# Altium integrated library Altera MAX 7000AE.IntLib: 310 symbols (part 22 of 22)
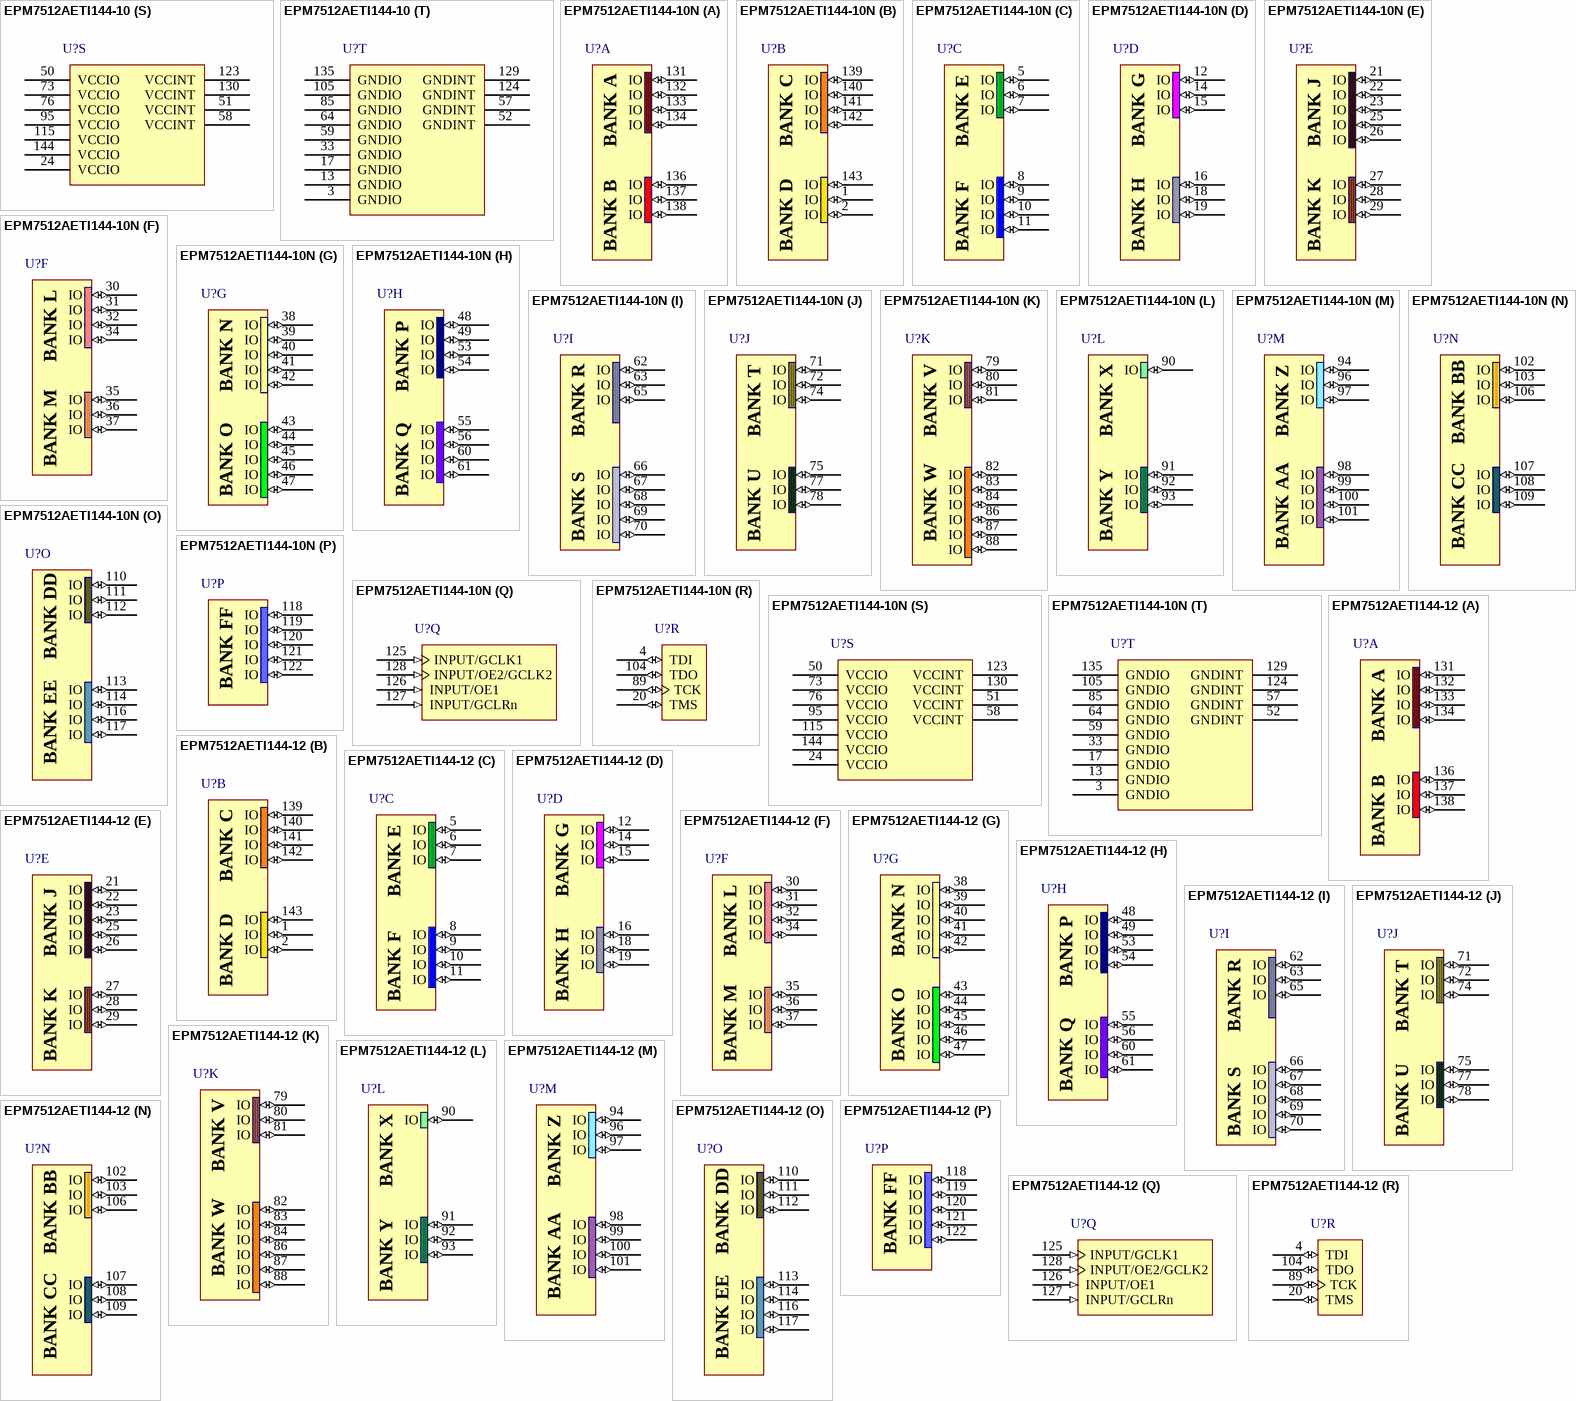
[diagram p141: symbols EPM7512AETI144-10 to EPM7512AETI144-12]

## EPM7512AETI144-10
designator U?
MAX 7000AE 3.3V CPLD, 512 Macrocells, 144-Pin TQFP, Speed Grade 10, Industrial Grade; Published: 18-Aug-2005; LatestRevisionDate: 13-Apr-2006; LatestRevisionNote: IPC-7351 Footprint Added.; DatasheetVersion: ver4.5, Sep-2003; PackageVersion: ver14.3, Jul-2006; PackageReference: TQFP144; Publisher: Altium Limited; PackageDescription: 144-Pin Plastic Thin Quad Flat Pack (TQFP144); Code_JEDEC: MS-026-BFB; ComponentLink1Description: Manufacturer Link; ComponentLink1URL: http://www.altera.com/products/devices/max7k/m7k-index.html; ComponentLink2Description: Datasheet; ComponentLink2URL: http://www.altera.com/literature/ds/m7000a.pdf; ComponentLink3Description: Packaging Specification; ComponentLink3URL: http://www.altera.com/literature/ds/dspkg.pdf
footprint TQFP144_N (Thin QFP, 144-Leads, Body 20x20mm, Pitch 0.5mm, IPC Medium Density)
footprint TQFP144_L (Thin QFP, 144-Leads, Body 20x20mm, Pitch 0.5mm, IPC High Density)
footprint TQFP144_M (Thin QFP, 144-Leads, Body 20x20mm, Pitch 0.5mm, IPC Low Density)
3D model EPM7512AE-TQFP144 (144-Pin Plastic Thin Quad Flat Pack (TQFP144))
signal-integrity model max7kae (MAX 7000AE)
part A pins: 131 IO (io), 132 IO (io), 133 IO (io), 134 IO (io), 136 IO (io), 137 IO (io), 138 IO (io)
part B pins: 1 IO (io), 2 IO (io), 139 IO (io), 140 IO (io), 141 IO (io), 142 IO (io), 143 IO (io)
part C pins: 5 IO (io), 6 IO (io), 7 IO (io), 8 IO (io), 9 IO (io), 10 IO (io), 11 IO (io)
part D pins: 12 IO (io), 14 IO (io), 15 IO (io), 16 IO (io), 18 IO (io), 19 IO (io)
part E pins: 21 IO (io), 22 IO (io), 23 IO (io), 25 IO (io), 26 IO (io), 27 IO (io), 28 IO (io), 29 IO (io)
part F pins: 30 IO (io), 31 IO (io), 32 IO (io), 34 IO (io), 35 IO (io), 36 IO (io), 37 IO (io)
part G pins: 38 IO (io), 39 IO (io), 40 IO (io), 41 IO (io), 42 IO (io), 43 IO (io), 44 IO (io), 45 IO (io), 46 IO (io), 47 IO (io)
part H pins: 48 IO (io), 49 IO (io), 53 IO (io), 54 IO (io), 55 IO (io), 56 IO (io), 60 IO (io), 61 IO (io)
part I pins: 62 IO (io), 63 IO (io), 65 IO (io), 66 IO (io), 67 IO (io), 68 IO (io), 69 IO (io), 70 IO (io)
part J pins: 71 IO (io), 72 IO (io), 74 IO (io), 75 IO (io), 77 IO (io), 78 IO (io)
part K pins: 79 IO (io), 80 IO (io), 81 IO (io), 82 IO (io), 83 IO (io), 84 IO (io), 86 IO (io), 87 IO (io), 88 IO (io)
part L pins: 90 IO (io), 91 IO (io), 92 IO (io), 93 IO (io)
part M pins: 94 IO (io), 96 IO (io), 97 IO (io), 98 IO (io), 99 IO (io), 100 IO (io), 101 IO (io)
part N pins: 102 IO (io), 103 IO (io), 106 IO (io), 107 IO (io), 108 IO (io), 109 IO (io)
part O pins: 110 IO (io), 111 IO (io), 112 IO (io), 113 IO (io), 114 IO (io), 116 IO (io), 117 IO (io)
part P pins: 118 IO (io), 119 IO (io), 120 IO (io), 121 IO (io), 122 IO (io)
part Q pins: 125 INPUT/GCLK1 (in), 126 INPUT/OE1 (in), 127 INPUT/GCLRn (in), 128 INPUT/OE2/GCLK2 (in)
part R pins: 4 TDI (io), 20 TMS (io), 89 TCK (io), 104 TDO (io)
part S pins: 24 VCCIO (power), 50 VCCIO (power), 51 VCCINT (power), 58 VCCINT (power), 73 VCCIO (power), 76 VCCIO (power), 95 VCCIO (power), 115 VCCIO (power), 123 VCCINT (power), 130 VCCINT (power), 144 VCCIO (power)
part T pins: 3 GNDIO (power), 13 GNDIO (power), 17 GNDIO (power), 33 GNDIO (power), 52 GNDINT (power), 57 GNDINT (power), 59 GNDIO (power), 64 GNDIO (power), 85 GNDIO (power), 105 GNDIO (power), 124 GNDINT (power), 129 GNDINT (power), 135 GNDIO (power)
part A text: BANK A; BANK B
part B text: BANK C; BANK D
part C text: BANK E; BANK F
part D text: BANK G; BANK H
part E text: BANK J; BANK K
part F text: BANK L; BANK M
part G text: BANK N; BANK O
part H text: BANK P; BANK Q
part I text: BANK R; BANK S
part J text: BANK T; BANK U
part K text: BANK V; BANK W
part L text: BANK X; BANK Y
part M text: BANK Z; BANK AA
part N text: BANK BB; BANK CC
part O text: BANK DD; BANK EE
part P text: BANK FF

## EPM7512AETI144-10N
designator U?
MAX 7000AE 3.3V CPLD, 512 Macrocells, 144-Pin TQFP, Speed Grade 10, Industrial Grade, Pb-Free; Published: 18-Aug-2005; LatestRevisionDate: 13-Apr-2006; LatestRevisionNote: IPC-7351 Footprint Added.; DatasheetVersion: ver4.5, Sep-2003; PackageVersion: ver14.3, Jul-2006; PackageReference: TQFP144; Publisher: Altium Limited; PackageDescription: 144-Pin Plastic Thin Quad Flat Pack (TQFP144); Code_JEDEC: MS-026-BFB; ComponentLink1Description: Manufacturer Link; ComponentLink1URL: http://www.altera.com/products/devices/max7k/m7k-index.html; ComponentLink2Description: Datasheet; ComponentLink2URL: http://www.altera.com/literature/ds/m7000a.pdf; ComponentLink3Description: Packaging Specification; ComponentLink3URL: http://www.altera.com/literature/ds/dspkg.pdf
footprint TQFP144_N (Thin QFP, 144-Leads, Body 20x20mm, Pitch 0.5mm, IPC Medium Density)
footprint TQFP144_L (Thin QFP, 144-Leads, Body 20x20mm, Pitch 0.5mm, IPC High Density)
footprint TQFP144_M (Thin QFP, 144-Leads, Body 20x20mm, Pitch 0.5mm, IPC Low Density)
3D model EPM7512AE-TQFP144 (144-Pin Plastic Thin Quad Flat Pack (TQFP144))
signal-integrity model max7kae (MAX 7000AE)
part A pins: 131 IO (io), 132 IO (io), 133 IO (io), 134 IO (io), 136 IO (io), 137 IO (io), 138 IO (io)
part B pins: 1 IO (io), 2 IO (io), 139 IO (io), 140 IO (io), 141 IO (io), 142 IO (io), 143 IO (io)
part C pins: 5 IO (io), 6 IO (io), 7 IO (io), 8 IO (io), 9 IO (io), 10 IO (io), 11 IO (io)
part D pins: 12 IO (io), 14 IO (io), 15 IO (io), 16 IO (io), 18 IO (io), 19 IO (io)
part E pins: 21 IO (io), 22 IO (io), 23 IO (io), 25 IO (io), 26 IO (io), 27 IO (io), 28 IO (io), 29 IO (io)
part F pins: 30 IO (io), 31 IO (io), 32 IO (io), 34 IO (io), 35 IO (io), 36 IO (io), 37 IO (io)
part G pins: 38 IO (io), 39 IO (io), 40 IO (io), 41 IO (io), 42 IO (io), 43 IO (io), 44 IO (io), 45 IO (io), 46 IO (io), 47 IO (io)
part H pins: 48 IO (io), 49 IO (io), 53 IO (io), 54 IO (io), 55 IO (io), 56 IO (io), 60 IO (io), 61 IO (io)
part I pins: 62 IO (io), 63 IO (io), 65 IO (io), 66 IO (io), 67 IO (io), 68 IO (io), 69 IO (io), 70 IO (io)
part J pins: 71 IO (io), 72 IO (io), 74 IO (io), 75 IO (io), 77 IO (io), 78 IO (io)
part K pins: 79 IO (io), 80 IO (io), 81 IO (io), 82 IO (io), 83 IO (io), 84 IO (io), 86 IO (io), 87 IO (io), 88 IO (io)
part L pins: 90 IO (io), 91 IO (io), 92 IO (io), 93 IO (io)
part M pins: 94 IO (io), 96 IO (io), 97 IO (io), 98 IO (io), 99 IO (io), 100 IO (io), 101 IO (io)
part N pins: 102 IO (io), 103 IO (io), 106 IO (io), 107 IO (io), 108 IO (io), 109 IO (io)
part O pins: 110 IO (io), 111 IO (io), 112 IO (io), 113 IO (io), 114 IO (io), 116 IO (io), 117 IO (io)
part P pins: 118 IO (io), 119 IO (io), 120 IO (io), 121 IO (io), 122 IO (io)
part Q pins: 125 INPUT/GCLK1 (in), 126 INPUT/OE1 (in), 127 INPUT/GCLRn (in), 128 INPUT/OE2/GCLK2 (in)
part R pins: 4 TDI (io), 20 TMS (io), 89 TCK (io), 104 TDO (io)
part S pins: 24 VCCIO (power), 50 VCCIO (power), 51 VCCINT (power), 58 VCCINT (power), 73 VCCIO (power), 76 VCCIO (power), 95 VCCIO (power), 115 VCCIO (power), 123 VCCINT (power), 130 VCCINT (power), 144 VCCIO (power)
part T pins: 3 GNDIO (power), 13 GNDIO (power), 17 GNDIO (power), 33 GNDIO (power), 52 GNDINT (power), 57 GNDINT (power), 59 GNDIO (power), 64 GNDIO (power), 85 GNDIO (power), 105 GNDIO (power), 124 GNDINT (power), 129 GNDINT (power), 135 GNDIO (power)
part A text: BANK A; BANK B
part B text: BANK C; BANK D
part C text: BANK E; BANK F
part D text: BANK G; BANK H
part E text: BANK J; BANK K
part F text: BANK L; BANK M
part G text: BANK N; BANK O
part H text: BANK P; BANK Q
part I text: BANK R; BANK S
part J text: BANK T; BANK U
part K text: BANK V; BANK W
part L text: BANK X; BANK Y
part M text: BANK Z; BANK AA
part N text: BANK BB; BANK CC
part O text: BANK DD; BANK EE
part P text: BANK FF

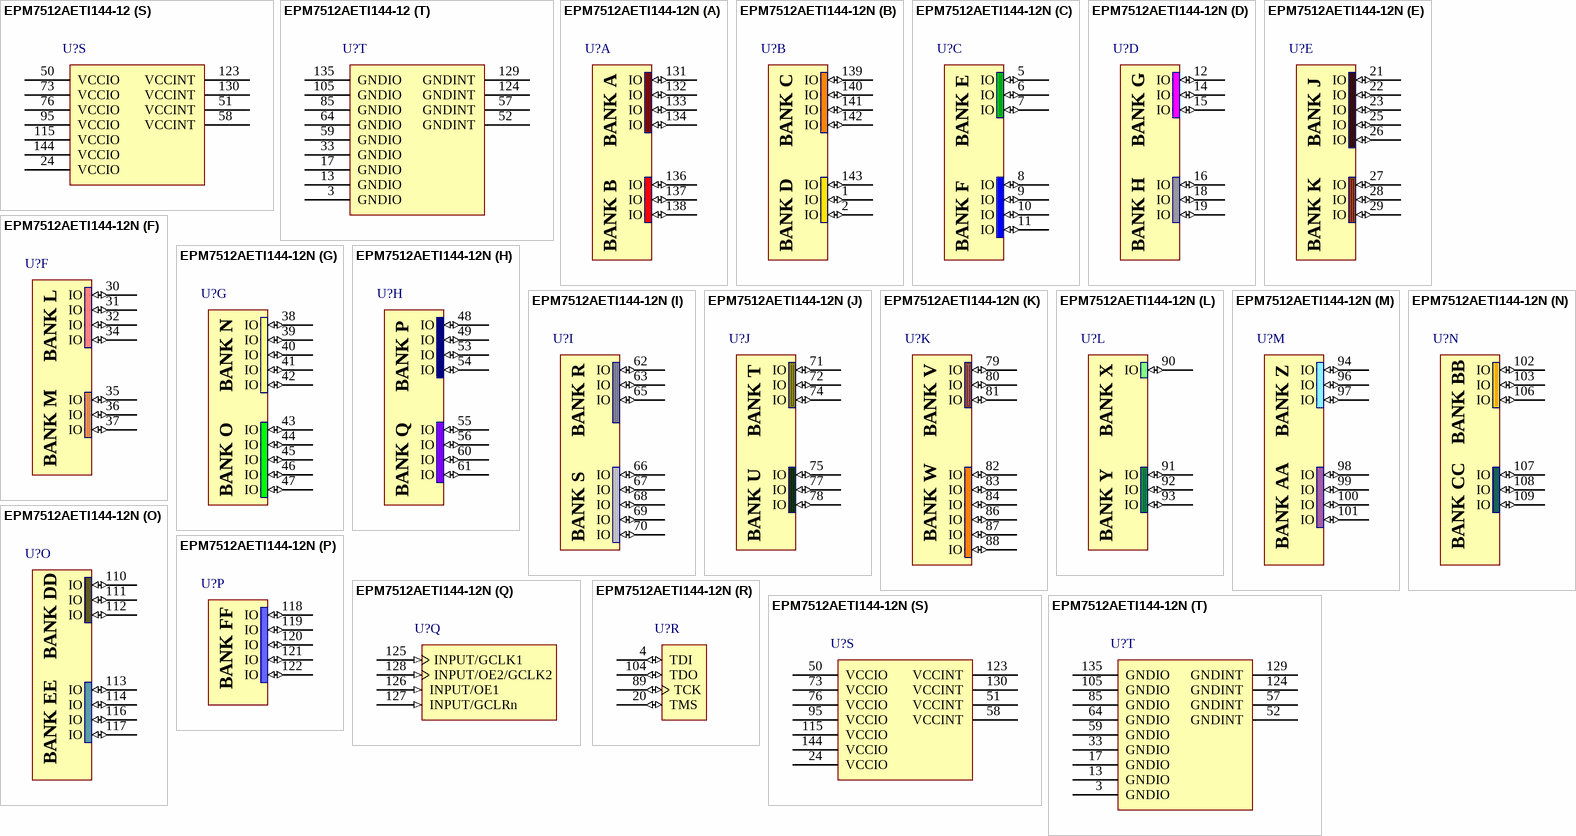
[diagram p121: symbols EPM7512AETI144-12 to EPM7512AETI144-12N]

## EPM7512AETI144-12
designator U?
MAX 7000AE 3.3V CPLD, 512 Macrocells, 144-Pin TQFP, Speed Grade 12, Industrial Grade; Published: 18-Aug-2005; LatestRevisionDate: 13-Apr-2006; LatestRevisionNote: IPC-7351 Footprint Added.; DatasheetVersion: ver4.5, Sep-2003; PackageVersion: ver14.3, Jul-2006; PackageReference: TQFP144; Publisher: Altium Limited; PackageDescription: 144-Pin Plastic Thin Quad Flat Pack (TQFP144); Code_JEDEC: MS-026-BFB; ComponentLink1Description: Manufacturer Link; ComponentLink1URL: http://www.altera.com/products/devices/max7k/m7k-index.html; ComponentLink2Description: Datasheet; ComponentLink2URL: http://www.altera.com/literature/ds/m7000a.pdf; ComponentLink3Description: Packaging Specification; ComponentLink3URL: http://www.altera.com/literature/ds/dspkg.pdf
footprint TQFP144_N (Thin QFP, 144-Leads, Body 20x20mm, Pitch 0.5mm, IPC Medium Density)
footprint TQFP144_L (Thin QFP, 144-Leads, Body 20x20mm, Pitch 0.5mm, IPC High Density)
footprint TQFP144_M (Thin QFP, 144-Leads, Body 20x20mm, Pitch 0.5mm, IPC Low Density)
3D model EPM7512AE-TQFP144 (144-Pin Plastic Thin Quad Flat Pack (TQFP144))
signal-integrity model max7kae (MAX 7000AE)
part A pins: 131 IO (io), 132 IO (io), 133 IO (io), 134 IO (io), 136 IO (io), 137 IO (io), 138 IO (io)
part B pins: 1 IO (io), 2 IO (io), 139 IO (io), 140 IO (io), 141 IO (io), 142 IO (io), 143 IO (io)
part C pins: 5 IO (io), 6 IO (io), 7 IO (io), 8 IO (io), 9 IO (io), 10 IO (io), 11 IO (io)
part D pins: 12 IO (io), 14 IO (io), 15 IO (io), 16 IO (io), 18 IO (io), 19 IO (io)
part E pins: 21 IO (io), 22 IO (io), 23 IO (io), 25 IO (io), 26 IO (io), 27 IO (io), 28 IO (io), 29 IO (io)
part F pins: 30 IO (io), 31 IO (io), 32 IO (io), 34 IO (io), 35 IO (io), 36 IO (io), 37 IO (io)
part G pins: 38 IO (io), 39 IO (io), 40 IO (io), 41 IO (io), 42 IO (io), 43 IO (io), 44 IO (io), 45 IO (io), 46 IO (io), 47 IO (io)
part H pins: 48 IO (io), 49 IO (io), 53 IO (io), 54 IO (io), 55 IO (io), 56 IO (io), 60 IO (io), 61 IO (io)
part I pins: 62 IO (io), 63 IO (io), 65 IO (io), 66 IO (io), 67 IO (io), 68 IO (io), 69 IO (io), 70 IO (io)
part J pins: 71 IO (io), 72 IO (io), 74 IO (io), 75 IO (io), 77 IO (io), 78 IO (io)
part K pins: 79 IO (io), 80 IO (io), 81 IO (io), 82 IO (io), 83 IO (io), 84 IO (io), 86 IO (io), 87 IO (io), 88 IO (io)
part L pins: 90 IO (io), 91 IO (io), 92 IO (io), 93 IO (io)
part M pins: 94 IO (io), 96 IO (io), 97 IO (io), 98 IO (io), 99 IO (io), 100 IO (io), 101 IO (io)
part N pins: 102 IO (io), 103 IO (io), 106 IO (io), 107 IO (io), 108 IO (io), 109 IO (io)
part O pins: 110 IO (io), 111 IO (io), 112 IO (io), 113 IO (io), 114 IO (io), 116 IO (io), 117 IO (io)
part P pins: 118 IO (io), 119 IO (io), 120 IO (io), 121 IO (io), 122 IO (io)
part Q pins: 125 INPUT/GCLK1 (in), 126 INPUT/OE1 (in), 127 INPUT/GCLRn (in), 128 INPUT/OE2/GCLK2 (in)
part R pins: 4 TDI (io), 20 TMS (io), 89 TCK (io), 104 TDO (io)
part S pins: 24 VCCIO (power), 50 VCCIO (power), 51 VCCINT (power), 58 VCCINT (power), 73 VCCIO (power), 76 VCCIO (power), 95 VCCIO (power), 115 VCCIO (power), 123 VCCINT (power), 130 VCCINT (power), 144 VCCIO (power)
part T pins: 3 GNDIO (power), 13 GNDIO (power), 17 GNDIO (power), 33 GNDIO (power), 52 GNDINT (power), 57 GNDINT (power), 59 GNDIO (power), 64 GNDIO (power), 85 GNDIO (power), 105 GNDIO (power), 124 GNDINT (power), 129 GNDINT (power), 135 GNDIO (power)
part A text: BANK A; BANK B
part B text: BANK C; BANK D
part C text: BANK E; BANK F
part D text: BANK G; BANK H
part E text: BANK J; BANK K
part F text: BANK L; BANK M
part G text: BANK N; BANK O
part H text: BANK P; BANK Q
part I text: BANK R; BANK S
part J text: BANK T; BANK U
part K text: BANK V; BANK W
part L text: BANK X; BANK Y
part M text: BANK Z; BANK AA
part N text: BANK BB; BANK CC
part O text: BANK DD; BANK EE
part P text: BANK FF

## EPM7512AETI144-12N
designator U?
MAX 7000AE 3.3V CPLD, 512 Macrocells, 144-Pin TQFP, Speed Grade 12, Industrial Grade, Pb-Free; Published: 18-Aug-2005; LatestRevisionDate: 13-Apr-2006; LatestRevisionNote: IPC-7351 Footprint Added.; DatasheetVersion: ver4.5, Sep-2003; PackageVersion: ver14.3, Jul-2006; PackageReference: TQFP144; Publisher: Altium Limited; PackageDescription: 144-Pin Plastic Thin Quad Flat Pack (TQFP144); Code_JEDEC: MS-026-BFB; ComponentLink1Description: Manufacturer Link; ComponentLink1URL: http://www.altera.com/products/devices/max7k/m7k-index.html; ComponentLink2Description: Datasheet; ComponentLink2URL: http://www.altera.com/literature/ds/m7000a.pdf; ComponentLink3Description: Packaging Specification; ComponentLink3URL: http://www.altera.com/literature/ds/dspkg.pdf
footprint TQFP144_N (Thin QFP, 144-Leads, Body 20x20mm, Pitch 0.5mm, IPC Medium Density)
footprint TQFP144_L (Thin QFP, 144-Leads, Body 20x20mm, Pitch 0.5mm, IPC High Density)
footprint TQFP144_M (Thin QFP, 144-Leads, Body 20x20mm, Pitch 0.5mm, IPC Low Density)
3D model EPM7512AE-TQFP144 (144-Pin Plastic Thin Quad Flat Pack (TQFP144))
signal-integrity model max7kae (MAX 7000AE)
part A pins: 131 IO (io), 132 IO (io), 133 IO (io), 134 IO (io), 136 IO (io), 137 IO (io), 138 IO (io)
part B pins: 1 IO (io), 2 IO (io), 139 IO (io), 140 IO (io), 141 IO (io), 142 IO (io), 143 IO (io)
part C pins: 5 IO (io), 6 IO (io), 7 IO (io), 8 IO (io), 9 IO (io), 10 IO (io), 11 IO (io)
part D pins: 12 IO (io), 14 IO (io), 15 IO (io), 16 IO (io), 18 IO (io), 19 IO (io)
part E pins: 21 IO (io), 22 IO (io), 23 IO (io), 25 IO (io), 26 IO (io), 27 IO (io), 28 IO (io), 29 IO (io)
part F pins: 30 IO (io), 31 IO (io), 32 IO (io), 34 IO (io), 35 IO (io), 36 IO (io), 37 IO (io)
part G pins: 38 IO (io), 39 IO (io), 40 IO (io), 41 IO (io), 42 IO (io), 43 IO (io), 44 IO (io), 45 IO (io), 46 IO (io), 47 IO (io)
part H pins: 48 IO (io), 49 IO (io), 53 IO (io), 54 IO (io), 55 IO (io), 56 IO (io), 60 IO (io), 61 IO (io)
part I pins: 62 IO (io), 63 IO (io), 65 IO (io), 66 IO (io), 67 IO (io), 68 IO (io), 69 IO (io), 70 IO (io)
part J pins: 71 IO (io), 72 IO (io), 74 IO (io), 75 IO (io), 77 IO (io), 78 IO (io)
part K pins: 79 IO (io), 80 IO (io), 81 IO (io), 82 IO (io), 83 IO (io), 84 IO (io), 86 IO (io), 87 IO (io), 88 IO (io)
part L pins: 90 IO (io), 91 IO (io), 92 IO (io), 93 IO (io)
part M pins: 94 IO (io), 96 IO (io), 97 IO (io), 98 IO (io), 99 IO (io), 100 IO (io), 101 IO (io)
part N pins: 102 IO (io), 103 IO (io), 106 IO (io), 107 IO (io), 108 IO (io), 109 IO (io)
part O pins: 110 IO (io), 111 IO (io), 112 IO (io), 113 IO (io), 114 IO (io), 116 IO (io), 117 IO (io)
part P pins: 118 IO (io), 119 IO (io), 120 IO (io), 121 IO (io), 122 IO (io)
part Q pins: 125 INPUT/GCLK1 (in), 126 INPUT/OE1 (in), 127 INPUT/GCLRn (in), 128 INPUT/OE2/GCLK2 (in)
part R pins: 4 TDI (io), 20 TMS (io), 89 TCK (io), 104 TDO (io)
part S pins: 24 VCCIO (power), 50 VCCIO (power), 51 VCCINT (power), 58 VCCINT (power), 73 VCCIO (power), 76 VCCIO (power), 95 VCCIO (power), 115 VCCIO (power), 123 VCCINT (power), 130 VCCINT (power), 144 VCCIO (power)
part T pins: 3 GNDIO (power), 13 GNDIO (power), 17 GNDIO (power), 33 GNDIO (power), 52 GNDINT (power), 57 GNDINT (power), 59 GNDIO (power), 64 GNDIO (power), 85 GNDIO (power), 105 GNDIO (power), 124 GNDINT (power), 129 GNDINT (power), 135 GNDIO (power)
part A text: BANK A; BANK B
part B text: BANK C; BANK D
part C text: BANK E; BANK F
part D text: BANK G; BANK H
part E text: BANK J; BANK K
part F text: BANK L; BANK M
part G text: BANK N; BANK O
part H text: BANK P; BANK Q
part I text: BANK R; BANK S
part J text: BANK T; BANK U
part K text: BANK V; BANK W
part L text: BANK X; BANK Y
part M text: BANK Z; BANK AA
part N text: BANK BB; BANK CC
part O text: BANK DD; BANK EE
part P text: BANK FF